# Altium footprint library Arduino_Uno_Custom_PCBLib.PcbLib: 28 footprints (part 2 of 2)
Each footprint in its own frame and in the unit in brackets; x right, y up, seen from the top. Pads: shape width x height; smd on the part's side, far side on the other; paste and mask are expansions set on the pad; w line width, h text height; cw(c..) or ccw(c..) is an arc to the next point about the centre after c.
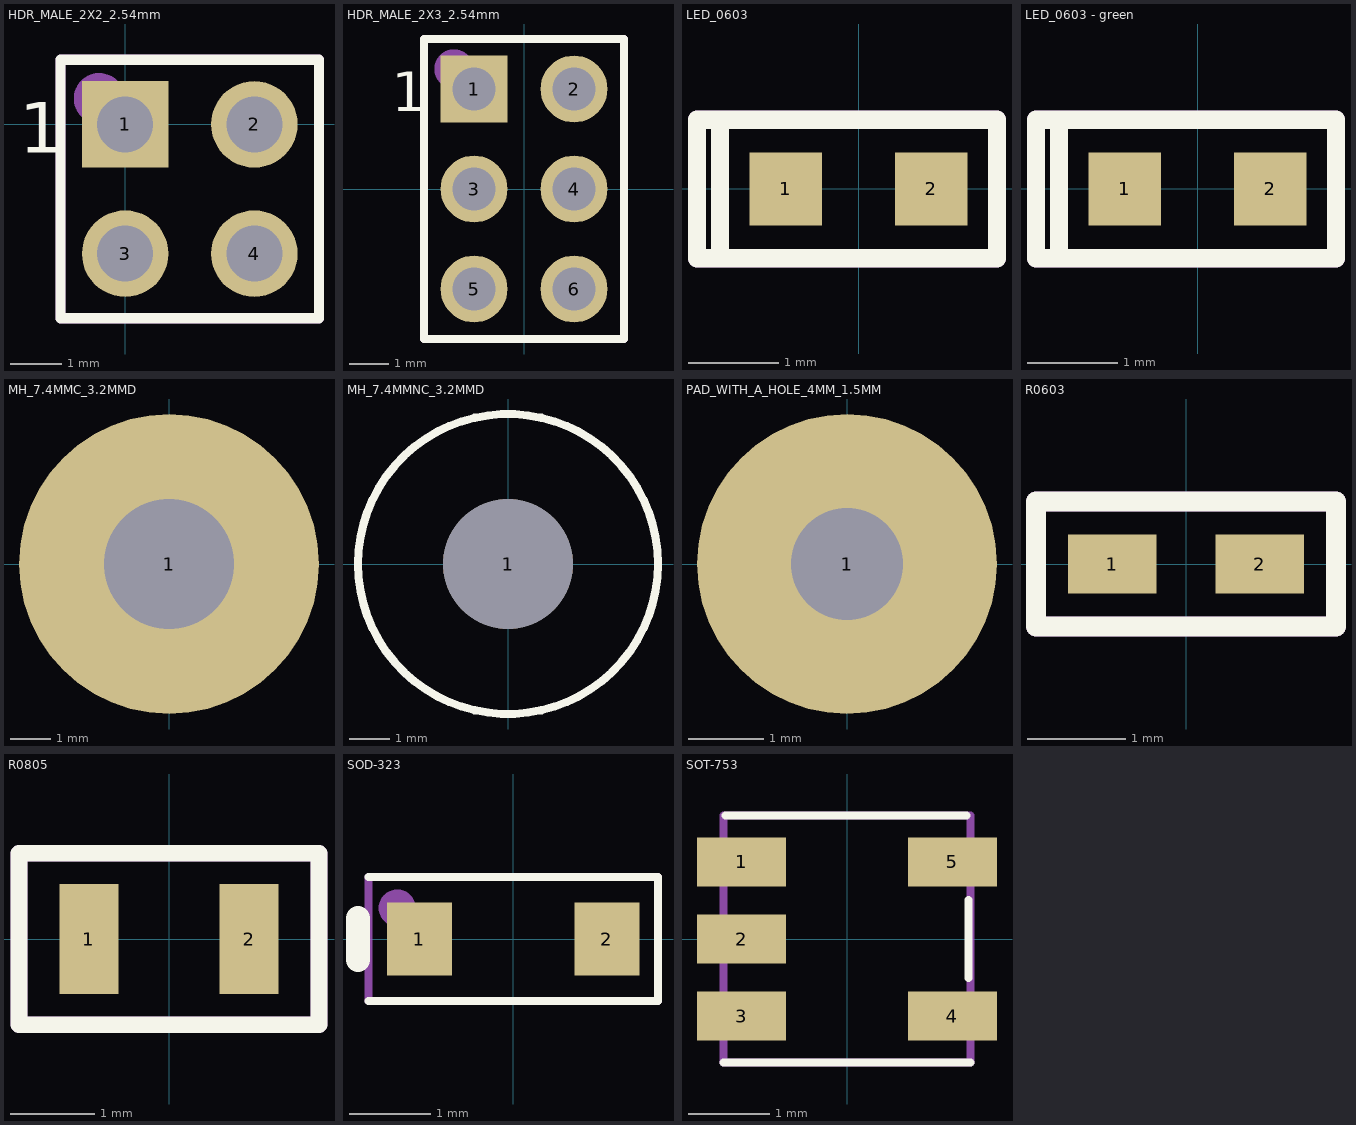
[diagram p1: the footprints below, top view; thin cyan lines are the x and y axes]

## HDR_MALE_2X2_2.54mm [mm]
pads (4):
  rect 1.7x1.7 hole 1.1: 1(0,0)
  round 1.7 hole 1.1: 2(2.54,0) 3(0,-2.54) 4(2.54,-2.54)
Top Overlay:
  lines w0.2: -1.27,-3.81 -1.27,0.254 -1.27,1.016 -1.27,1.27 3.556,1.27 3.81,1.27 3.81,-3.81 -1.27,-3.81
  text "1" at -2.086,-0.562 h1
Mechanical 29:
  circle w0.6: c-0.508,0.508 r0.2
  lines w0.2: -1.27,-3.81 -1.27,1.27 3.81,1.27 3.81,-3.81 -1.27,-3.81
  text ".Designator" at -0.254,-2.794 h1.52
3D body "826656-2.stp": height 5.8, standoff -6, extent -1.27,-3.77 3.81,1.23

## HDR_MALE_2X3_2.54mm [mm]
pads (6):
  rect 1.7x1.7 hole 1.1: 1(-1.27,2.54)
  round 1.7 hole 1.1: 2(1.27,2.54) 3(-1.27,0) 4(1.27,0) 5(-1.27,-2.54) 6(1.27,-2.54)
Top Overlay:
  lines w0.2: -2.54,-3.81 -2.54,2.794 -2.54,3.556 -2.54,3.81 2.286,3.81 2.54,3.81 2.54,-3.81 -2.54,-3.81
  text "1" at -3.356,1.978 h1
Mechanical 29:
  circle w0.6: c-1.778,3.048 r0.2
  lines w0.2: -2.54,-3.81 -2.54,3.81 2.54,3.81 2.54,-3.81 -2.54,-3.81
  text ".Designator" at -1.524,-0.254 h1.52
3D body "User Library-2x3 TH Pitch 2_54mm.STEP": height 8.96, standoff -3.74, extent -2.54,-3.81 2.54,3.81

## LED_0603 [mm]
pads (2):
  rect 0.8x0.8 smd: 1(-0.8,0) 2(0.8,0)
Top Overlay:
  lines w0.2: -1.524,-0.762 -1.778,-0.762 -1.778,0.762 -1.524,0.762 ; -1.524,-0.762 -1.524,0.762 ; -1.524,-0.762 1.524,-0.762 1.524,0.762 -1.524,0.762
Mechanical 29:
  lines w0.2: -1.524,-0.762 -1.524,0.762 ; -1.778,-0.762 -1.778,0.762 1.524,0.762 1.524,-0.762 -1.778,-0.762
  text ".Designator" at -0.562,-0.295 h0.8
3D body "User Library-LED_0603_WS.STEP": height 0.6, standoff 0, extent -0.8,-0.4 0.8,0.4
3D body: height 0.7, standoff 0.6, extent -0.381,-0.254 0.381,0.254

## LED_0603 - green [mm]
pads (2):
  rect 0.8x0.8 smd: 1(-0.8,0) 2(0.8,0)
Top Overlay:
  lines w0.2: -1.524,-0.762 1.524,-0.762 1.524,0.762 -1.524,0.762 ; -1.524,-0.762 -1.524,0.762 ; -1.524,-0.762 -1.778,-0.762 -1.778,0.762 -1.524,0.762
Mechanical 29:
  lines w0.2: -1.524,-0.762 -1.524,0.762 ; -1.778,-0.762 1.524,-0.762 1.524,0.762 -1.778,0.762 -1.778,-0.762
  text ".Designator" at -0.562,-0.295 h0.8
3D body: height 0.7, standoff 0.6, extent -0.381,-0.254 0.381,0.254
3D body "User Library-LED_0603_WS.STEP": height 0.6, standoff 0, extent -0.8,-0.4 0.8,0.4

## MH_7.4MMC_3.2MMD [mm]
pads (1):
  round 7.4 hole 3.2: 1(0,0)

## MH_7.4MMNC_3.2MMD [mm] "Mounting Hole (non-copper) 7.4mm, Drill 3.2 NPTH"
pads (1):
  round 3.2 hole 3.2 unplated: 1(0,0)
Top Overlay:
  circle w0.2: c0,0 r3.7

## PAD_WITH_A_HOLE_4MM_1.5MM [mm]
pads (1):
  round 4 hole 1.5: 1(0,0)

## PCBComponent_1 [mm]

## R0603 [mm]
pads (2):
  rect 0.9x0.6 smd: 1(-0.75,0) 2(0.75,0)
Top Overlay:
  lines w0.2: -1.524,-0.635 -1.524,0.635 1.524,0.635 1.524,-0.635 -1.524,-0.635
Mechanical 29:
  lines w0.2: -1.524,-0.635 -1.524,0.635 1.524,0.635 1.524,-0.635 -1.524,-0.635
  text ".Designator" at -0.739,-0.285 h0.6
3D body "crl0603-fw-5r10elf.stp": height 0.46, standoff 0.01, extent -0.8,-0.4 0.8,0.4
3D body: height 0.5, standoff 0.3, extent -0.381,-0.254 0.381,0.254

## R0805 [mm]
pads (2):
  rect 0.7x1.3 smd: 1(-0.95,0) 2(0.95,0)
Top Overlay:
  lines w0.2: -1.778,-1.016 -1.778,1.016 1.778,1.016 1.778,-1.016 -1.778,-1.016
Mechanical 29:
  lines w0.2: -1.778,-1.016 -1.778,1.016 1.778,1.016 1.778,-1.016 -1.778,-1.016
  text ".Designator" at -0.889,-0.212 h0.51
3D body "R0805.step": height 0.71, standoff 0.01, extent -1,-0.6 1,0.6

## SOD-323 [mm]
pads (2):
  rect 0.8x0.9 smd: 1(-1.15,0) 2(1.15,0)
Top Overlay:
  lines w0.1: -1.778,-0.762 1.778,-0.762 1.778,0.762 -1.778,0.762
  lines w0.3: -1.905,-0.254 -1.905,-0.127 -1.905,0.127 -1.905,0.254
Mechanical 29:
  circle w0.254: c-1.424,0.381 r0.1
  lines w0.1: -1.778,-0.762 1.778,-0.762 1.778,0.762 -1.778,0.762 -1.778,-0.762
  text ".Designator" at -1.551,-0.208 h0.6
3D body "User Library-SOD-323.step": height 1.1, standoff 0, extent -1.3,-0.675 1.3,0.675

## SOT-753 [mm]
pads (5):
  rect 1.1x0.6 smd: 1(-1.3,0.95) 2(-1.3,0) 3(-1.3,-0.95) 4(1.3,-0.95) 5(1.3,0.95)
Top Overlay:
  lines w0.1: -1.524,-1.524 1.524,-1.524 ; -1.499,1.524 1.473,1.524 ; 1.499,-0.483 1.499,0 1.499,0.483
Mechanical 29:
  circle w0.2: c-1.143,1.016 r0.1
  lines w0.1: -1.524,-1.524 1.524,-1.524 1.524,1.524 -1.524,1.524 -1.524,-1.524
  text ".Designator" at 0.241,-1.297 h0.5
3D body "User Library-TPS560200DBV.step": height 1.31, standoff -0.14, extent -1.514,-1.5 1.514,1.5